# Altium schematic symbol library SCH - RF - AMPLIFIER - MACOM CGHV27015S.SCHLIB: 1 symbol
Pins are listed as number, name and electrical type; pins without a type are passive.

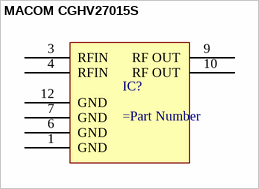
[diagram p0: symbol MACOM CGHV27015S]

## MACOM CGHV27015S
designator IC?
pins: 1 GND, 3 RFIN, 4 RFIN, 6 GND, 7 GND, 9 RF OUT, 10 RF OUT, 12 GND